# Altium footprint library ov7725.PcbLib: 15 footprints
Each footprint in its own frame and in the unit in brackets; x right, y up, seen from the top. Pads: shape width x height; smd on the part's side, far side on the other; paste and mask are expansions set on the pad; w line width, h text height; cw(c..) or ccw(c..) is an arc to the next point about the centre after c.
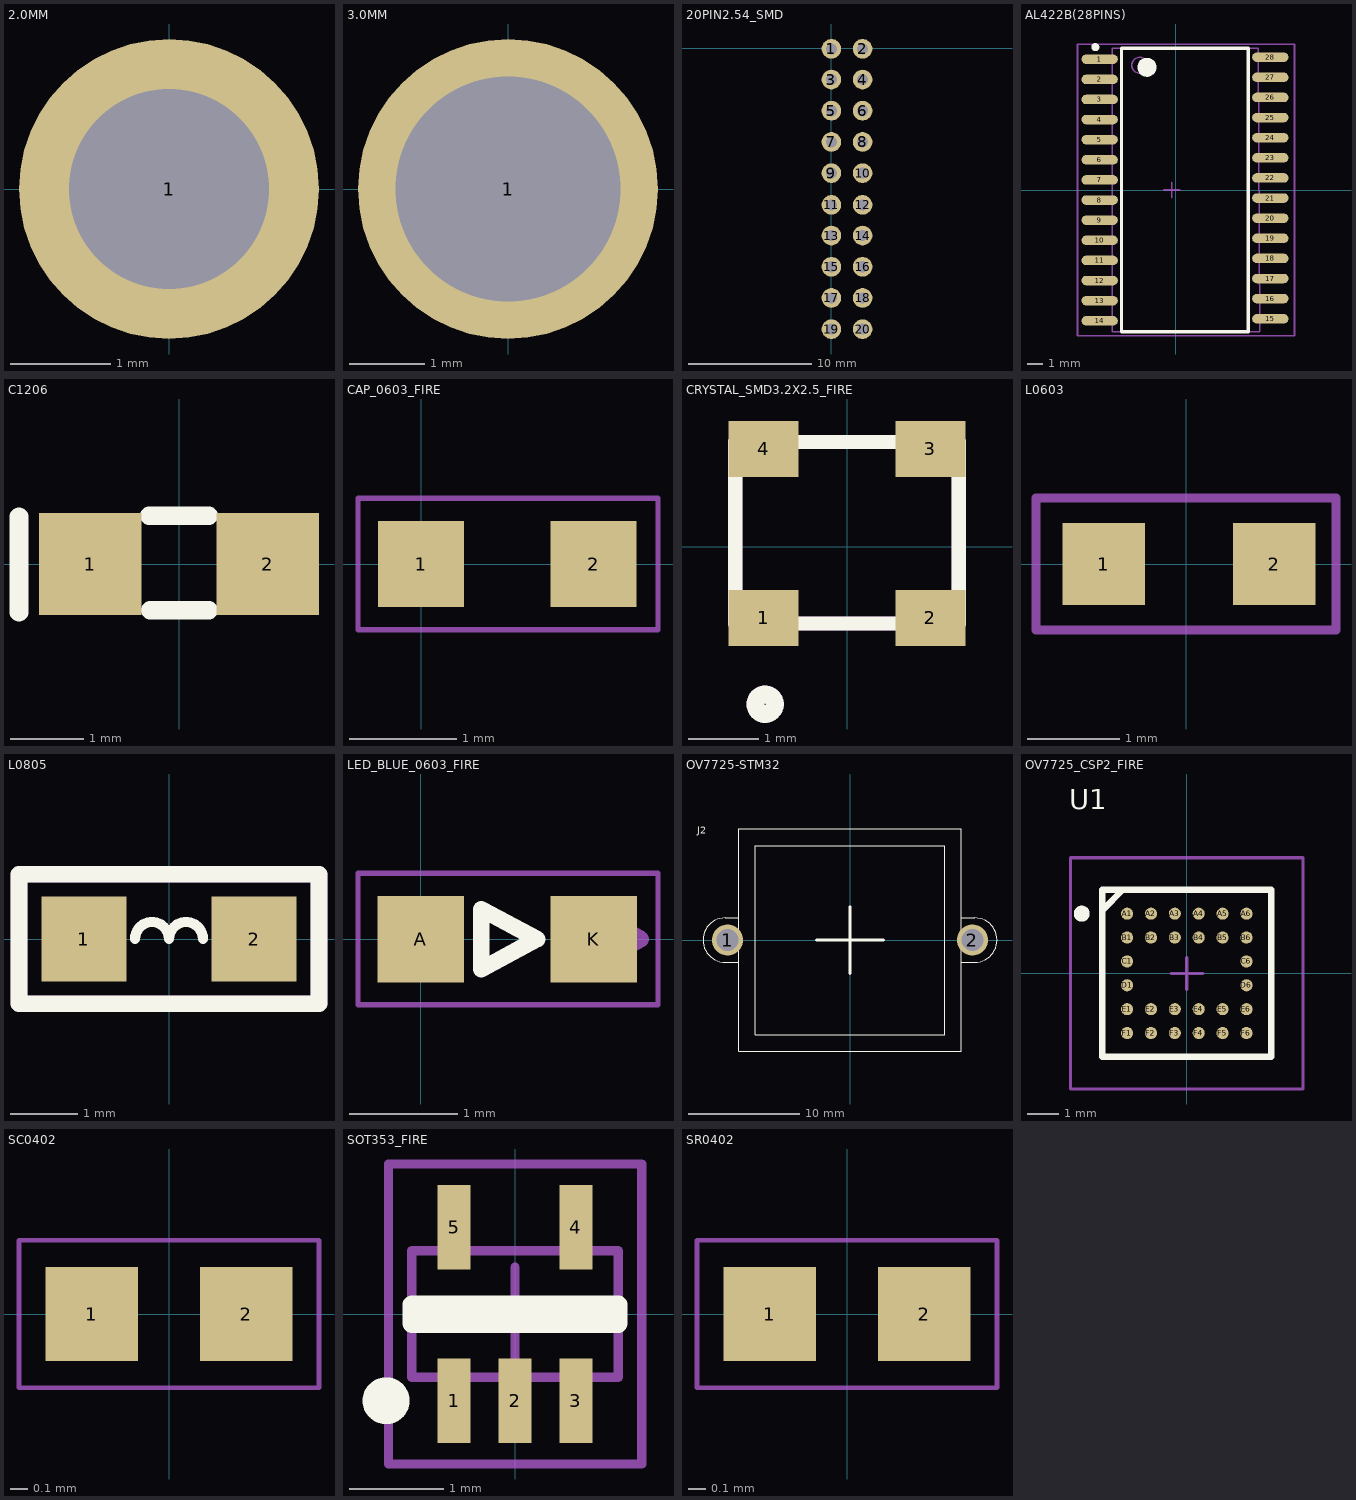
[diagram p0: the footprints below, top view; thin cyan lines are the x and y axes]

## 2.0MM [mm]
pads (1):
  round 3 hole 2: 1(0,0)

## 3.0MM [mm]
pads (1):
  round 4 hole 3: 1(0,0)

## 20PIN2.54_SMD [mm]
pads (20):
  round 1.6 hole 0.9: 1(0,-0.04) 2(2.54,-0.04) 3(0,-2.54) 4(2.54,-2.54) 5(0,-5.08) 6(2.54,-5.08) 7(0,-7.62) 8(2.54,-7.62) 9(0,-10.16) 10(2.54,-10.16) 11(0,-12.74) 12(2.54,-12.74) 13(0,-15.24) 14(2.54,-15.24) 15(0,-17.78) 16(2.54,-17.78) 17(0,-20.32) 18(2.54,-20.32) 19(0,-22.86) 20(2.54,-22.86)

## AL422B(28PINS) [mm]
pads (28):
  oval 2.3x0.6 smd: 1(-4.804,8.255) 2(-4.804,6.985) 3(-4.804,5.715) 4(-4.804,4.445) 5(-4.804,3.175) 6(-4.804,1.905) 7(-4.804,0.635) 8(-4.804,-0.635) 9(-4.804,-1.905) 10(-4.804,-3.175) 11(-4.804,-4.445) 12(-4.804,-5.715) 13(-4.804,-6.985) 14(-4.804,-8.255) 15(5.969,-8.128) 16(5.969,-6.858) 17(5.969,-5.588) 18(5.969,-4.318) 19(5.969,-3.048) 20(5.969,-1.778) 21(5.969,-0.508) 22(5.969,0.762) 23(5.969,2.032) 24(5.969,3.302) 25(5.969,4.572) 26(5.969,5.842) 27(5.969,7.112) 28(5.969,8.382)
Top Overlay:
  circle w0.25: c-5.078,9.017 r0.125
  circle w0.6: c-1.824,7.747 r0.3
  lines w0.2: -3.429,-8.95 -3.429,8.95 4.572,8.95 4.572,-8.95 -3.429,-8.95
Mechanical 1:
  text "U3" at 1.379,-2.489 h0.5
Mechanical 16:
  circle w0.1: c-2.278,7.874 r0.5
  lines w0.1: -0.754,0 0.246,0 ; -0.254,-0.5 -0.254,0.5 ; -6.204,-9.2 7.496,-9.2 7.493,9.144 7.493,9.2 -6.204,9.2 -6.204,-9.2 ; -4.004,-8.95 5.252,-8.95 5.297,-8.95 5.207,8.89 5.207,8.95 -4.004,8.95 -4.004,-8.95

## C1206 [mm]
pads (2):
  rect 1.4x1.4 smd: 1(-1.215,0) 2(1.215,0)
Top Overlay:
  lines w0.254: -2.189,-0.66 -2.189,0.648 ; -0.406,0.66 0.406,0.66 ; -0.394,-0.635 0.406,-0.635
Mechanical 1:
  text "C14" at -3.483,-0.15 h0.4

## CAP_0603_FIRE [mm]
pads (2):
  rect 0.8x0.8 smd: 1(0,0) 2(1.6,0)
Mechanical 1:
  lines w0.051: -0.584,-0.61 -0.584,0.61 2.197,0.61 2.197,-0.61 -0.584,-0.61
  text "C1" at 1.98,0.283 h0.4

## CRYSTAL_SMD3.2X2.5_FIRE [mm]
pads (4):
  rect 1x0.8 smd: 1(-1.194,-1.019) 2(1.194,-1.019) 3(1.194,1.4) 4(-1.194,1.4)
Top Overlay:
  circle w0.254: c-1.172,-2.257 r0.14
  lines w0.203: -1.6,-1.102 1.6,-1.102 1.6,1.498 -1.6,1.498 -1.6,-1.102
Mechanical 1:
  circle w0.254: c-1.172,-2.257 r0.14
  lines w0.203: -1.6,-1.102 1.6,-1.102 1.6,1.498 -1.6,1.498 -1.6,-1.102
  text "Y1" at -0.214,0.757 h0.4

## L0603 [mil]
pads (2):
  rect 35x35 smd: 1(-35,0) 2(37.49,0)
Mechanical 1:
  lines w3.94: -63.74,-28 63.74,-28 63.74,28 -63.74,28 -63.74,-28

## L0805 [mm]
pads (2):
  rect 1.27x1.27 smd: 1(-1.27,0) 2(1.27,0)
Top Overlay:
  lines w0.152: -0.508,0 cw(c-0.254,0) 0,0 cw(c0.254,0) 0.508,0
  lines w0.25: -2.24,-0.965 -2.24,0.965 2.24,0.965 2.24,-0.965 -2.24,-0.965
Mechanical 1:
  lines w0.25: -2.24,-0.965 -2.24,0.965 2.24,0.965 2.24,-0.965 -2.24,-0.965

## LED_BLUE_0603_FIRE [mm]
pads (2):
  rect 0.8x0.8 smd: A(0,0) K(1.6,0)
Top Overlay:
  lines w0.152: 0.562,-0.277 1.076,0.001 0.562,0.277 0.562,-0.277
Mechanical 1:
  lines w0.051: -0.579,-0.605 2.193,-0.605 2.193,0.607 -0.579,0.607 -0.579,-0.605
  lines w0.152: 1.521,-0.277 2.035,0.001 1.521,0.277 1.521,-0.277
  text "D1" at 3.026,0.3 h0.4

## OV7725-STM32 [mm]
pads (2):
  round 2.8 hole 2: 1(-11,0) 2(11,0)
Top Overlay:
  lines w0.1: -10.018,2 -11.208,2 ccw(c-11.208,0) -11.208,-2 -10.016,-2 ; 10.004,-2 11.208,-2 ccw(c11.208,0) 11.208,2 10.01,2 ; -10,-10 10,-10 10,10 -10,10 -10,-10 ; -8.5,-8.5 8.5,-8.5 8.5,8.5 -8.5,8.5 -8.5,-8.5
  lines w0.254: -3,0 3,0 ; 0,-3 0,3
  text "J2" at -13.752,9.567 h0.64

## OV7725_CSP2_FIRE [mm]
pads (28):
  round 0.381 smd mask+0.025: A1(-1.875,1.875) A2(-1.125,1.875) A3(-0.375,1.875) A4(0.375,1.875) A5(1.125,1.875) A6(1.875,1.875) B1(-1.875,1.125) B2(-1.125,1.125) B3(-0.375,1.125) B4(0.375,1.125) B5(1.125,1.125) B6(1.875,1.125) C1(-1.875,0.375) C6(1.875,0.375) D1(-1.875,-0.375) D6(1.875,-0.375) E1(-1.875,-1.125) E2(-1.125,-1.125) E3(-0.375,-1.125) E4(0.375,-1.125) E5(1.125,-1.125) E6(1.875,-1.125) F1(-1.875,-1.875) F2(-1.125,-1.875) F3(-0.375,-1.875) F4(0.375,-1.875) F5(1.125,-1.875) F6(1.875,-1.875)
Top Overlay:
  circle w0.25: c-3.3,1.875 r0.125
  lines w0.2: -2.65,1.983 -2.008,2.625 ; -2.65,-2.625 -2.65,2.625 2.65,2.625 2.65,-2.625 -2.65,-2.625
  text "U1" at -3.7,5.156 h0.64
Mechanical 16:
  lines w0.1: -0.5,0 0.5,0 ; 0,-0.5 0,0.5 ; -3.65,-3.632 -3.65,3.632 3.65,3.632 3.65,-3.632 -3.65,-3.632 ; -2.65,-2.625 -2.65,2.625 2.65,2.625 2.65,-2.625 -2.65,-2.625

## SC0402 [mm]
pads (2):
  rect 0.52x0.53 smd: 1(-0.435,0) 2(0.435,0)
Mechanical 1:
  lines w0.025: -0.845,-0.415 0.845,-0.415 0.845,0.415 -0.845,0.415 -0.845,-0.415
  text "C11" at -0.408,0.582 h0.4

## SOT353_FIRE [mm]
pads (5):
  rect 0.35x0.9 smd: 1(-0.65,-0.925) 2(0,-0.925) 3(0.65,-0.925) 4(0.65,0.925) 5(-0.65,0.925)
Top Overlay:
  circle w0.25: c-1.375,-0.925 r0.125
  lines w0.2: -1.1,-0.1 1.1,-0.1 1.1,0.1 -1.1,0.1 -1.1,-0.1
Mechanical 1:
  text "U2" at -0.31,-1.083 h0.4
Mechanical 16:
  lines w0.1: -0.5,0 0.5,0 ; 0,-0.5 0,0.5 ; -1.35,-1.6 1.35,-1.6 1.35,1.6 -1.35,1.6 -1.35,-1.6 ; -1.1,-0.675 1.1,-0.675 1.1,0.675 -1.1,0.675 -1.1,-0.675

## SR0402 [mm]
pads (2):
  rect 0.52x0.53 smd: 1(-0.435,0) 2(0.435,0)
Mechanical 1:
  lines w0.025: -0.845,-0.415 -0.845,0.415 0.845,0.415 0.845,-0.415 -0.845,-0.415
  text "R1" at 0.923,-0.239 h0.4